# EAGLE library part LM2901VDTBR2G (library on-semiconductor-01)
Quad Comparators
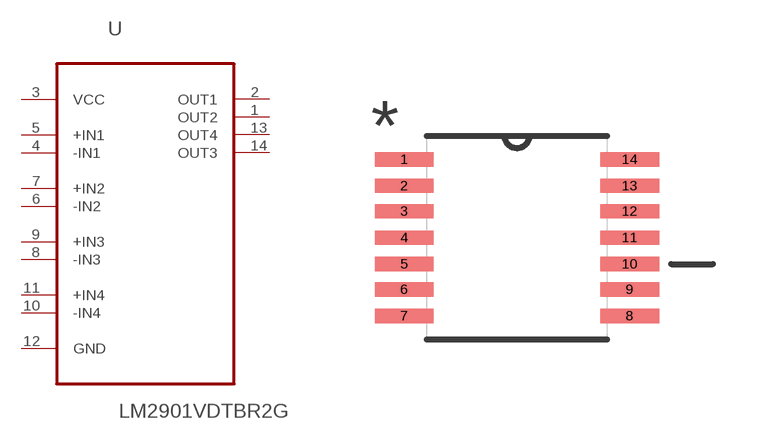
[diagram p38: symbol with the pads of SOP65P640X120-14N; footprint SOP65P640X120-14N]

Designator prefix U

## LM2901VDTBR2G (MPN: LM2901VDTBR2G; OC_FARNELL: -; OC_NEWARK: 04R7813; PACKAGE: TSSOP-14; SUPPLIER: On Semiconductor)  [SOP65P640X120-14N]
1  OUT2  out
2  OUT1  out
3  VCC  pwr
4  -IN1  in
5  +IN1  in
6  -IN2  in
7  +IN2  in
8  -IN3  in
9  +IN3  in
10  -IN4  in
11  +IN4  in
12  GND  pas
13  OUT4  out
14  OUT3  out

## Footprint SOP65P640X120-14N (pad centres in mm)
smd 1.473 x 0.356: 1 -2.819,1.956; 2 -2.819,1.295; 3 -2.819,0.66; 4 -2.819,0; 5 -2.819,-0.66; 6 -2.819,-1.295; 7 -2.819,-1.956; 8 2.819,-1.956; 9 2.819,-1.295; 10 2.819,-0.66; 11 2.819,0; 12 2.819,0.66; 13 2.819,1.295; 14 2.819,1.956